# EAGLE library part BBB_CAP (library TIparts)
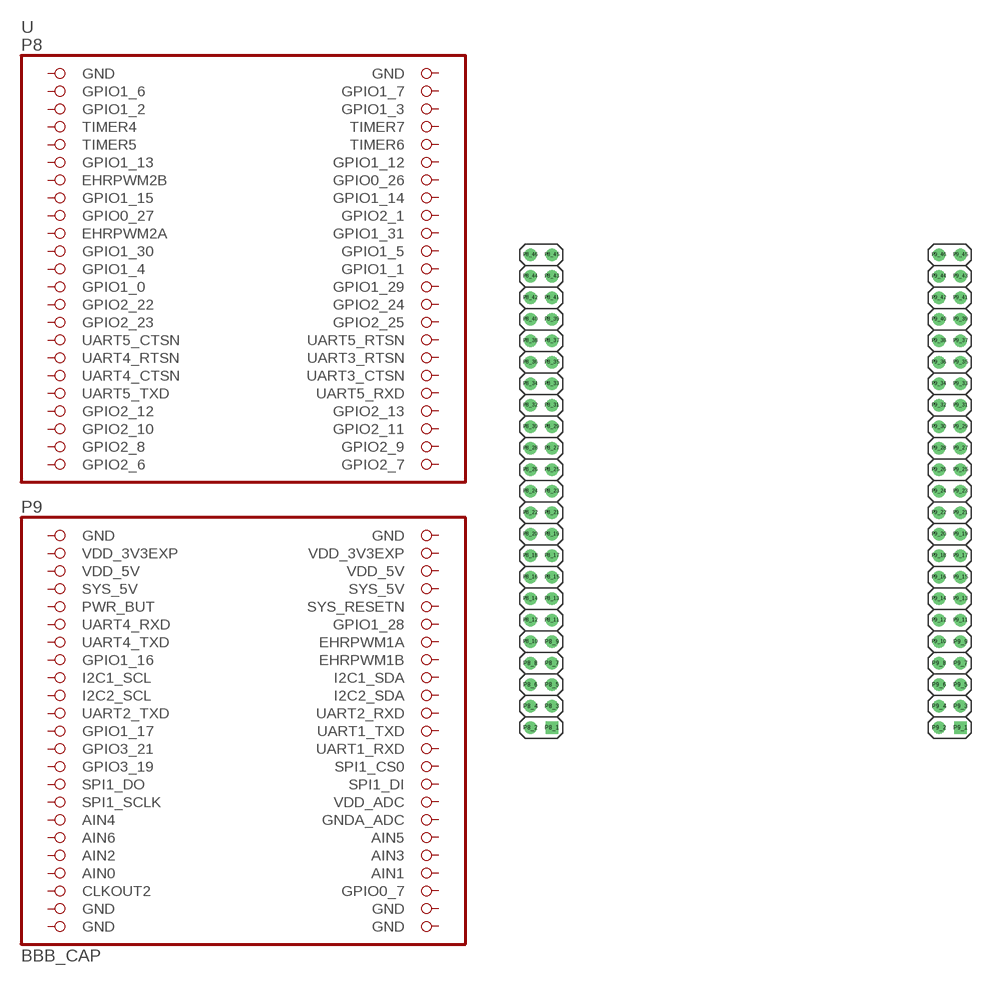
[diagram p1: symbol with the pads of BBB; footprint BBB]

Designator prefix -

## BBB_CAP  [BBB]
P8_1  GND  pwr
P8_2  GND  pwr
P8_3  GPIO1_6  pas
P8_4  GPIO1_7  pas
P8_5  GPIO1_2  pas
P8_6  GPIO1_3  pas
P8_7  TIMER4  pas
P8_8  TIMER7  pas
P8_9  TIMER5  pas
P8_10  TIMER6  pas
P8_11  GPIO1_13  pas
P8_12  GPIO1_12  pas
P8_13  EHRPWM2B  pas
P8_14  GPIO0_26  pas
P8_15  GPIO1_15  pas
P8_16  GPIO1_14  pas
P8_17  GPIO0_27  pas
P8_18  GPIO2_1  pas
P8_19  EHRPWM2A  pas
P8_20  GPIO1_31  pas
P8_21  GPIO1_30  pas
P8_22  GPIO1_5  pas
P8_23  GPIO1_4  pas
P8_24  GPIO1_1  pas
P8_25  GPIO1_0  pas
P8_26  GPIO1_29  pas
P8_27  GPIO2_22  pas
P8_28  GPIO2_24  pas
P8_29  GPIO2_23  pas
P8_30  GPIO2_25  pas
P8_31  UART5_CTSN  pas
P8_32  UART5_RTSN  pas
P8_33  UART4_RTSN  pas
P8_34  UART3_RTSN  pas
P8_35  UART4_CTSN  pas
P8_36  UART3_CTSN  pas
P8_37  UART5_TXD  pas
P8_38  UART5_RXD  pas
P8_39  GPIO2_12  pas
P8_40  GPIO2_13  pas
P8_41  GPIO2_10  pas
P8_42  GPIO2_11  pas
P8_43  GPIO2_8  pas
P8_44  GPIO2_9  pas
P8_45  GPIO2_6  pas
P8_46  GPIO2_7  pas
P9_1  GND  pwr
P9_2  GND  pwr
P9_3  VDD_3V3EXP  pwr
P9_4  VDD_3V3EXP  pwr
P9_5  VDD_5V  pwr
P9_6  VDD_5V  pwr
P9_7  SYS_5V  pwr
P9_8  SYS_5V  pas
P9_9  PWR_BUT  pas
P9_10  SYS_RESETN  pas
P9_11  UART4_RXD  pas
P9_12  GPIO1_28  pas
P9_13  UART4_TXD  pas
P9_14  EHRPWM1A  pas
P9_15  GPIO1_16  pas
P9_16  EHRPWM1B  pas
P9_17  I2C1_SCL  pas
P9_18  I2C1_SDA  pas
P9_19  I2C2_SCL  pas
P9_20  I2C2_SDA  pas
P9_21  UART2_TXD  pas
P9_22  UART2_RXD  pas
P9_23  GPIO1_17  pas
P9_24  UART1_TXD  pas
P9_25  GPIO3_21  pas
P9_26  UART1_RXD  pas
P9_27  GPIO3_19  pas
P9_28  SPI1_CS0  pas
P9_29  SPI1_DO  pas
P9_30  SPI1_DI  pas
P9_31  SPI1_SCLK  pas
P9_32  VDD_ADC  pas
P9_33  AIN4  pas
P9_34  GNDA_ADC  pas
P9_35  AIN6  pas
P9_36  AIN5  pas
P9_37  AIN2  pas
P9_38  AIN3  pas
P9_39  AIN0  pwr
P9_40  AIN1  pas
P9_41  CLKOUT2  in
P9_42  GPIO0_7  pas
P9_43  GND  pwr
P9_44  GND  pwr
P9_45  GND  pwr
P9_46  GND  pwr

## Footprint BBB (pad centres in mm)
drill 1 square: P8_1 -22.225,-29.21; P9_1 26.035,-29.21
drill 1: P8_2 -24.765,-29.21; P8_3 -22.225,-26.67; P8_4 -24.765,-26.67; P8_5 -22.225,-24.13; P8_6 -24.765,-24.13; P8_7 -22.225,-21.59; P8_8 -24.765,-21.59; P8_9 -22.225,-19.05; P8_10 -24.765,-19.05; P8_11 -22.225,-16.51; P8_12 -24.765,-16.51; P8_13 -22.225,-13.97; P8_14 -24.765,-13.97; P8_15 -22.225,-11.43; P8_16 -24.765,-11.43; P8_17 -22.225,-8.89; P8_18 -24.765,-8.89; P8_19 -22.225,-6.35; P8_20 -24.765,-6.35; P8_21 -22.225,-3.81; P8_22 -24.765,-3.81; P8_23 -22.225,-1.27; P8_24 -24.765,-1.27; P8_25 -22.225,1.27; P8_26 -24.765,1.27; P8_27 -22.225,3.81; P8_28 -24.765,3.81; P8_29 -22.225,6.35; P8_30 -24.765,6.35; P8_31 -22.225,8.89; P8_32 -24.765,8.89; P8_33 -22.225,11.43; P8_34 -24.765,11.43; P8_35 -22.225,13.97; P8_36 -24.765,13.97; P8_37 -22.225,16.51; P8_38 -24.765,16.51; P8_39 -22.225,19.05; P8_40 -24.765,19.05; P8_41 -22.225,21.59; P8_42 -24.765,21.59; P8_43 -22.225,24.13; P8_44 -24.765,24.13; P8_45 -22.225,26.67; P8_46 -24.765,26.67; P9_2 23.495,-29.21; P9_3 26.035,-26.67; P9_4 23.495,-26.67; P9_5 26.035,-24.13; P9_6 23.495,-24.13; P9_7 26.035,-21.59; P9_8 23.495,-21.59; P9_9 26.035,-19.05; P9_10 23.495,-19.05; P9_11 26.035,-16.51; P9_12 23.495,-16.51; P9_13 26.035,-13.97; P9_14 23.495,-13.97; P9_15 26.035,-11.43; P9_16 23.495,-11.43; P9_17 26.035,-8.89; P9_18 23.495,-8.89; P9_19 26.035,-6.35; P9_20 23.495,-6.35; P9_21 26.035,-3.81; P9_22 23.495,-3.81; P9_23 26.035,-1.27; P9_24 23.495,-1.27; P9_25 26.035,1.27; P9_26 23.495,1.27; P9_27 26.035,3.81; P9_28 23.495,3.81; P9_29 26.035,6.35; P9_30 23.495,6.35; P9_31 26.035,8.89; P9_32 23.495,8.89; P9_33 26.035,11.43; P9_34 23.495,11.43; P9_35 26.035,13.97; P9_36 23.495,13.97; P9_37 26.035,16.51; P9_38 23.495,16.51; P9_39 26.035,19.05; P9_40 23.495,19.05; P9_41 26.035,21.59; P9_42 23.495,21.59; P9_43 26.035,24.13; P9_44 23.495,24.13; P9_45 26.035,26.67; P9_46 23.495,26.67